# EAGLE library part DVR8871 (library Adafruit DVR8871)
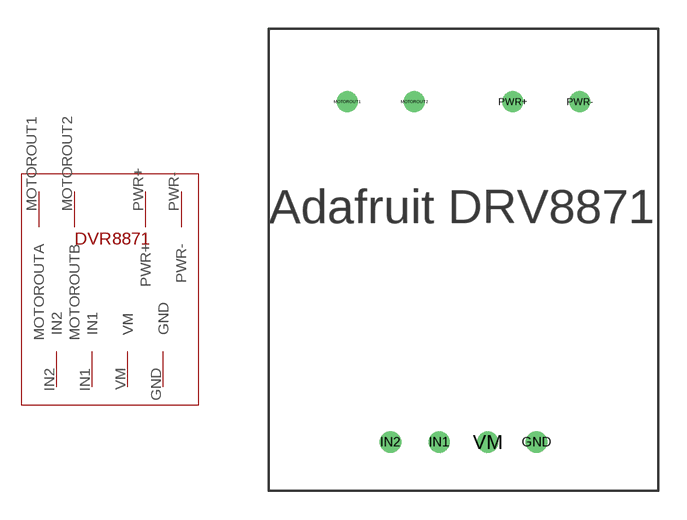
[diagram p0: symbol with the pads of DRV8871; footprint DRV8871]

Designator prefix -

## DVR8871PLATINE  [DRV8871]
GND  GND
IN1  IN1
IN2  IN2
MOTOROUT1  MOTOROUTA
MOTOROUT2  MOTOROUTB
PWR+  PWR+
PWR-  PWR-
VM  VM

## Footprint DRV8871 (pad centres in mm)
drill 0.6: GND 13.97,2.54; IN1 8.89,2.54; IN2 6.35,2.54; MOTOROUT1 4.092,20.32; MOTOROUT2 7.592,20.32; PWR+ 12.728,20.32; PWR- 16.228,20.32; VM 11.43,2.54